# EAGLE library part AK4386 (library akm)
Audio DAC 100dB 96kHz 24-Bit 2ch ΔΣ DAC
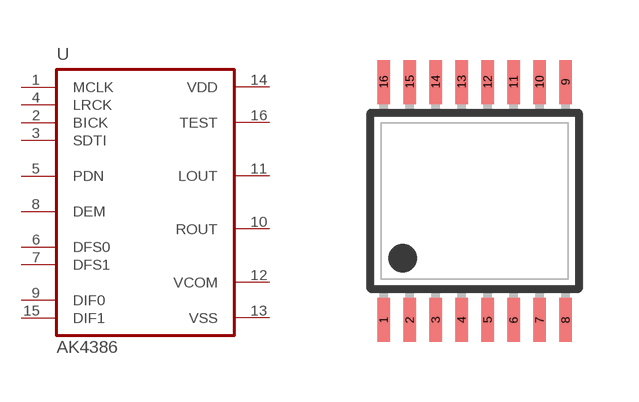
[diagram p28: symbol with the pads of TSSOP16; footprint TSSOP16]

Designator prefix U

## AK4386  [TSSOP16]
1  MCLK  in
2  BICK  in
3  SDTI  in
4  LRCK  in
5  PDN  in
6  DFS0  in
7  DFS1  in
8  DEM  in
9  DIF0  out
10  ROUT  pas
11  LOUT  pas
12  VCOM  pas
13  VSS  pwr
14  VDD  pwr
15  DIF1  in
16  TEST  in

## Footprint TSSOP16 (pad centres in mm)
Thin Shrink Small Outline Plastic 16
smd 0.31 x 1.1: 1 -2.275,-2.98; 2 -1.625,-2.98; 3 -0.975,-2.98; 4 -0.325,-2.98; 5 0.325,-2.98; 6 0.975,-2.98; 7 1.625,-2.98; 8 2.275,-2.98; 9 2.275,2.98; 10 1.625,2.98; 11 0.975,2.98; 12 0.325,2.98; 13 -0.325,2.98; 14 -0.975,2.98; 15 -1.625,2.98; 16 -2.275,2.98